# EAGLE library part COM-ETX-BASE (library com-etx)
CPU Module COM ETX, Kontron
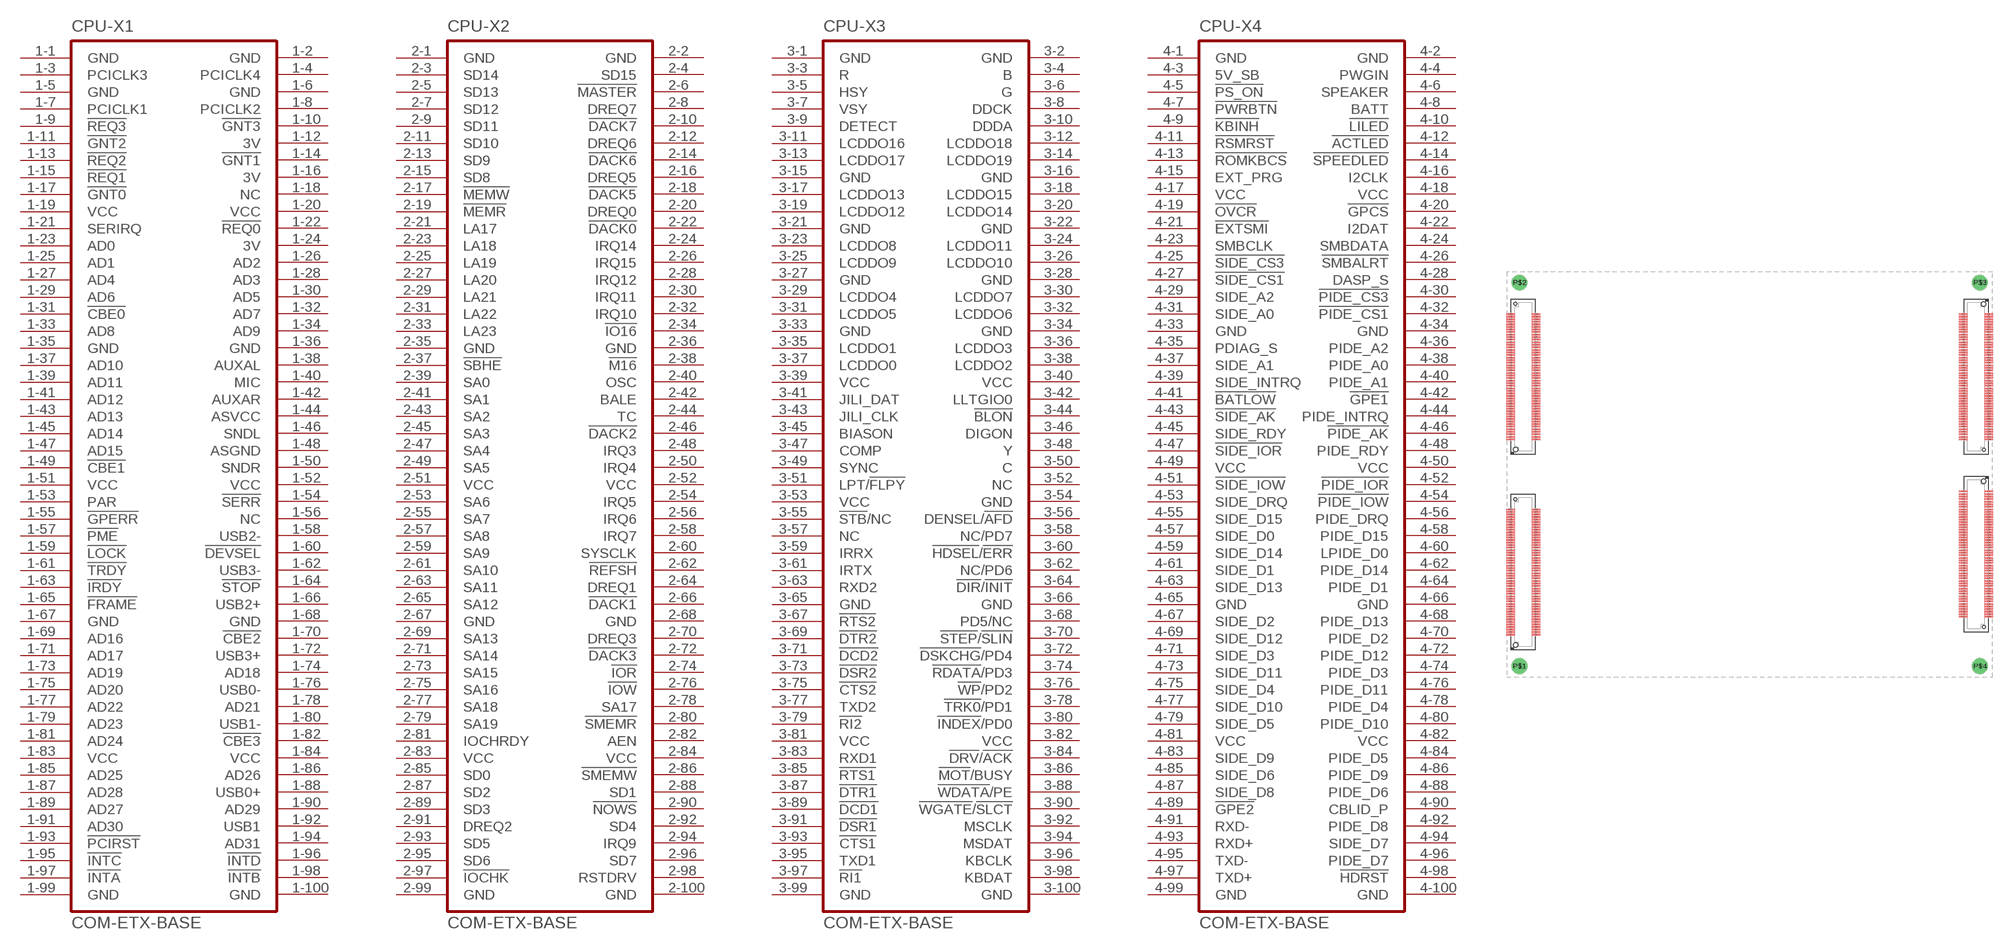
[diagram p0: symbol with the pads of COM-ETX-BASE; footprint COM-ETX-BASE]

Designator prefix CPU; gates -X1=X1 -X2=X2 -X3=X3 -X4=X4

## COM-ETX-BASE  [COM-ETX-BASE]
1-1  -X1:GND
1-2  -X1:GND  pwr
1-3  -X1:PCICLK3
1-4  -X1:PCICLK4
1-5  -X1:GND  pwr
1-6  -X1:GND  pwr
1-7  -X1:PCICLK1
1-8  -X1:PCICLK2
1-9  -X1:!REQ3
1-10  -X1:!GNT3
1-11  -X1:!GNT2
1-12  -X1:3V  pwr
1-13  -X1:!REQ2
1-14  -X1:!GNT1
1-15  -X1:!REQ1
1-16  -X1:3V  pwr
1-17  -X1:!GNT0
1-18  -X1:NC
1-19  -X1:VCC  pwr
1-20  -X1:VCC
1-21  -X1:SERIRQ
1-22  -X1:!REQ0
1-23  -X1:AD0
1-24  -X1:3V  pwr
1-25  -X1:AD1
1-26  -X1:AD2
1-27  -X1:AD4
1-28  -X1:AD3
1-29  -X1:AD6
1-30  -X1:AD5
1-31  -X1:!CBE0
1-32  -X1:AD7
1-33  -X1:AD8
1-34  -X1:AD9
1-35  -X1:GND  pwr
1-36  -X1:GND  pwr
1-37  -X1:AD10
1-38  -X1:AUXAL
1-39  -X1:AD11
1-40  -X1:MIC
1-41  -X1:AD12
1-42  -X1:AUXAR
1-43  -X1:AD13
1-44  -X1:ASVCC  pwr
1-45  -X1:AD14
1-46  -X1:SNDL
1-47  -X1:AD15
1-48  -X1:ASGND  pwr
1-49  -X1:!CBE1
1-50  -X1:SNDR
1-51  -X1:VCC  pwr
1-52  -X1:VCC  pwr
1-53  -X1:PAR
1-54  -X1:!SERR
1-55  -X1:!GPERR
1-56  -X1:NC
1-57  -X1:!PME
1-58  -X1:USB2-
1-59  -X1:!LOCK
1-60  -X1:!DEVSEL
1-61  -X1:!TRDY
1-62  -X1:USB3-
1-63  -X1:!IRDY
1-64  -X1:!STOP
1-65  -X1:!FRAME
1-66  -X1:USB2+
1-67  -X1:GND  pwr
1-68  -X1:GND  pwr
1-69  -X1:AD16
1-70  -X1:!CBE2
1-71  -X1:AD17
1-72  -X1:USB3+
1-73  -X1:AD19
1-74  -X1:AD18
1-75  -X1:AD20
1-76  -X1:USB0-
1-77  -X1:AD22
1-78  -X1:AD21
1-79  -X1:AD23
1-80  -X1:USB1-
1-81  -X1:AD24
1-82  -X1:!CBE3
1-83  -X1:VCC  pwr
1-84  -X1:VCC  pwr
1-85  -X1:AD25
1-86  -X1:AD26
1-87  -X1:AD28
1-88  -X1:USB0+
1-89  -X1:AD27
1-90  -X1:AD29
1-91  -X1:AD30
1-92  -X1:USB1
1-93  -X1:!PCIRST
1-94  -X1:AD31
1-95  -X1:!INTC
1-96  -X1:!INTD
1-97  -X1:!INTA
1-98  -X1:!INTB
1-99  -X1:GND  pwr
1-100  -X1:GND  pwr
2-1  -X2:GND  pwr
2-2  -X2:GND  pwr
2-3  -X2:SD14
2-4  -X2:SD15
2-5  -X2:SD13
2-6  -X2:!MASTER
2-7  -X2:SD12
2-8  -X2:DREQ7
2-9  -X2:SD11
2-10  -X2:!DACK7
2-11  -X2:SD10
2-12  -X2:DREQ6
2-13  -X2:SD9
2-14  -X2:!DACK6
2-15  -X2:SD8
2-16  -X2:DREQ5
2-17  -X2:!MEMW
2-18  -X2:!DACK5
2-19  -X2:!MEMR
2-20  -X2:DREQ0
2-21  -X2:LA17
2-22  -X2:!DACK0
2-23  -X2:LA18
2-24  -X2:IRQ14
2-25  -X2:LA19
2-26  -X2:IRQ15
2-27  -X2:LA20
2-28  -X2:IRQ12
2-29  -X2:LA21
2-30  -X2:IRQ11
2-31  -X2:LA22
2-32  -X2:IRQ10
2-33  -X2:LA23
2-34  -X2:!IO16
2-35  -X2:GND  pwr
2-36  -X2:GND  pwr
2-37  -X2:!SBHE
2-38  -X2:!M16
2-39  -X2:SA0
2-40  -X2:OSC
2-41  -X2:SA1
2-42  -X2:BALE
2-43  -X2:SA2
2-44  -X2:TC
2-45  -X2:SA3
2-46  -X2:!DACK2
2-47  -X2:SA4
2-48  -X2:IRQ3
2-49  -X2:SA5
2-50  -X2:IRQ4
2-51  -X2:VCC  pwr
2-52  -X2:VCC  pwr
2-53  -X2:SA6
2-54  -X2:IRQ5
2-55  -X2:SA7
2-56  -X2:IRQ6
2-57  -X2:SA8
2-58  -X2:IRQ7
2-59  -X2:SA9
2-60  -X2:SYSCLK
2-61  -X2:SA10
2-62  -X2:!REFSH
2-63  -X2:SA11
2-64  -X2:DREQ1
2-65  -X2:SA12
2-66  -X2:!DACK1
2-67  -X2:GND  pwr
2-68  -X2:GND  pwr
2-69  -X2:SA13
2-70  -X2:DREQ3
2-71  -X2:SA14
2-72  -X2:!DACK3
2-73  -X2:SA15
2-74  -X2:!IOR
2-75  -X2:SA16
2-76  -X2:!IOW
2-77  -X2:SA18
2-78  -X2:SA17
2-79  -X2:SA19
2-80  -X2:!SMEMR
2-81  -X2:IOCHRDY
2-82  -X2:AEN
2-83  -X2:VCC  pwr
2-84  -X2:VCC  pwr
2-85  -X2:SD0
2-86  -X2:!SMEMW
2-87  -X2:SD2
2-88  -X2:SD1
2-89  -X2:SD3
2-90  -X2:!NOWS
2-91  -X2:DREQ2
2-92  -X2:SD4
2-93  -X2:SD5
2-94  -X2:IRQ9
2-95  -X2:SD6
2-96  -X2:SD7
2-97  -X2:!IOCHK
2-98  -X2:RSTDRV
2-99  -X2:GND  pwr
2-100  -X2:GND  pwr
3-1  -X3:GND  pwr
3-2  -X3:GND  pwr
3-3  -X3:R
3-4  -X3:B
3-5  -X3:HSY
3-6  -X3:G
3-7  -X3:VSY
3-8  -X3:DDCK
3-9  -X3:DETECT
3-10  -X3:DDDA
3-11  -X3:LCDDO16
3-12  -X3:LCDDO18
3-13  -X3:LCDDO17
3-14  -X3:LCDDO19
3-15  -X3:GND  pwr
3-16  -X3:GND  pwr
3-17  -X3:LCDDO13
3-18  -X3:LCDDO15
3-19  -X3:LCDDO12
3-20  -X3:LCDDO14
3-21  -X3:GND  pwr
3-22  -X3:GND  pwr
3-23  -X3:LCDDO8
3-24  -X3:LCDDO11
3-25  -X3:LCDDO9
3-26  -X3:LCDDO10
3-27  -X3:GND  pwr
3-28  -X3:GND  pwr
3-29  -X3:LCDDO4
3-30  -X3:LCDDO7
3-31  -X3:LCDDO5
3-32  -X3:LCDDO6
3-33  -X3:GND  pwr
3-34  -X3:GND  pwr
3-35  -X3:LCDDO1
3-36  -X3:LCDDO3
3-37  -X3:LCDDO0
3-38  -X3:LCDDO2
3-39  -X3:VCC  pwr
3-40  -X3:VCC  pwr
3-41  -X3:JILI_DAT
3-42  -X3:LLTGIO0
3-43  -X3:JILI_CLK
3-44  -X3:!BLON
3-45  -X3:BIASON
3-46  -X3:DIGON
3-47  -X3:COMP
3-48  -X3:Y
3-49  -X3:SYNC
3-50  -X3:C
3-51  -X3:LPT/!FLPY
3-52  -X3:NC
3-53  -X3:VCC  pwr
3-54  -X3:GND  pwr
3-55  -X3:!STB!/NC
3-56  -X3:DENSEL/!AFD!
3-57  -X3:NC
3-58  -X3:NC/PD7
3-59  -X3:IRRX
3-60  -X3:!HDSEL!/!ERR!
3-61  -X3:IRTX
3-62  -X3:NC/PD6
3-63  -X3:RXD2
3-64  -X3:!DIR!/!INIT!
3-65  -X3:GND  pwr
3-66  -X3:GND  pwr
3-67  -X3:!RTS2
3-68  -X3:PD5/NC
3-69  -X3:!DTR2
3-70  -X3:!STEP!/!SLIN!
3-71  -X3:!DCD2
3-72  -X3:!DSKCHG!/PD4
3-73  -X3:!DSR2
3-74  -X3:!RDATA!/PD3
3-75  -X3:!CTS2
3-76  -X3:!WP!/PD2
3-77  -X3:TXD2
3-78  -X3:!TRK0!/PD1
3-79  -X3:!RI2
3-80  -X3:!INDEX!/PD0
3-81  -X3:VCC  pwr
3-82  -X3:VCC  pwr
3-83  -X3:RXD1
3-84  -X3:!DRV!/!ACK!
3-85  -X3:!RTS1
3-86  -X3:!MOT!/BUSY
3-87  -X3:!DTR1
3-88  -X3:!WDATA!/PE
3-89  -X3:!DCD1
3-90  -X3:!WGATE!/!SLCT!
3-91  -X3:!DSR1
3-92  -X3:MSCLK
3-93  -X3:!CTS1
3-94  -X3:MSDAT
3-95  -X3:TXD1
3-96  -X3:KBCLK
3-97  -X3:!RI1
3-98  -X3:KBDAT
3-99  -X3:GND  pwr
3-100  -X3:GND  pwr
4-1  -X4:GND  pwr
4-2  -X4:GND  pwr
4-3  -X4:5V_SB
4-4  -X4:PWGIN
4-5  -X4:!PS_ON
4-6  -X4:SPEAKER
4-7  -X4:!PWRBTN
4-8  -X4:BATT  pwr
4-9  -X4:!KBINH
4-10  -X4:!LILED
4-11  -X4:!RSMRST
4-12  -X4:!ACTLED
4-13  -X4:!ROMKBCS
4-14  -X4:!SPEEDLED
4-15  -X4:EXT_PRG
4-16  -X4:I2CLK
4-17  -X4:VCC  pwr
4-18  -X4:VCC  pwr
4-19  -X4:!OVCR
4-20  -X4:!GPCS
4-21  -X4:!EXTSMI
4-22  -X4:I2DAT
4-23  -X4:SMBCLK
4-24  -X4:SMBDATA
4-25  -X4:!SIDE_CS3
4-26  -X4:!SMBALRT
4-27  -X4:!SIDE_CS1
4-28  -X4:DASP_S
4-29  -X4:SIDE_A2
4-30  -X4:!PIDE_CS3
4-31  -X4:SIDE_A0
4-32  -X4:!PIDE_CS1
4-33  -X4:GND  pwr
4-34  -X4:GND  pwr
4-35  -X4:PDIAG_S
4-36  -X4:PIDE_A2
4-37  -X4:SIDE_A1
4-38  -X4:PIDE_A0
4-39  -X4:SIDE_INTRQ
4-40  -X4:PIDE_A1
4-41  -X4:!BATLOW
4-42  -X4:!GPE1
4-43  -X4:!SIDE_AK
4-44  -X4:PIDE_INTRQ
4-45  -X4:SIDE_RDY
4-46  -X4:!PIDE_AK
4-47  -X4:!SIDE_IOR
4-48  -X4:PIDE_RDY
4-49  -X4:VCC  pwr
4-50  -X4:VCC  pwr
4-51  -X4:!SIDE_IOW
4-52  -X4:!PIDE_IOR
4-53  -X4:SIDE_DRQ
4-54  -X4:!PIDE_IOW
4-55  -X4:SIDE_D15
4-56  -X4:PIDE_DRQ
4-57  -X4:SIDE_D0
4-58  -X4:PIDE_D15
4-59  -X4:SIDE_D14
4-60  -X4:LPIDE_D0
4-61  -X4:SIDE_D1
4-62  -X4:PIDE_D14
4-63  -X4:SIDE_D13
4-64  -X4:PIDE_D1
4-65  -X4:GND  pwr
4-66  -X4:GND  pwr
4-67  -X4:SIDE_D2
4-68  -X4:PIDE_D13
4-69  -X4:SIDE_D12
4-70  -X4:PIDE_D2
4-71  -X4:SIDE_D3
4-72  -X4:PIDE_D12
4-73  -X4:SIDE_D11
4-74  -X4:PIDE_D3
4-75  -X4:SIDE_D4
4-76  -X4:PIDE_D11
4-77  -X4:SIDE_D10
4-78  -X4:PIDE_D4
4-79  -X4:SIDE_D5
4-80  -X4:PIDE_D10
4-81  -X4:VCC  pwr
4-82  -X4:VCC  pwr
4-83  -X4:SIDE_D9
4-84  -X4:PIDE_D5
4-85  -X4:SIDE_D6
4-86  -X4:PIDE_D9
4-87  -X4:SIDE_D8
4-88  -X4:PIDE_D6
4-89  -X4:!GPE2
4-90  -X4:CBLID_P
4-91  -X4:RXD-
4-92  -X4:PIDE_D8
4-93  -X4:RXD+
4-94  -X4:SIDE_D7
4-95  -X4:TXD-
4-96  -X4:PIDE_D7
4-97  -X4:TXD+
4-98  -X4:!HDRST
4-99  -X4:GND  pwr
4-100  -X4:GND  pwr

## Footprint COM-ETX-BASE (pad centres in mm)
COM ETX MODULE (Kontron) Baseboard Footprint
smd 2 x 0.35: 1-1 113.1,43.5; 1-2 107.1,43.5; 1-3 113.1,42.9; 1-4 107.1,42.9; 1-5 113.1,42.3; 1-6 107.1,42.3; 1-7 113.1,41.7; 1-8 107.1,41.7; 1-9 113.1,41.1; 1-10 107.1,41.1; 1-11 113.1,40.5; 1-12 107.1,40.5; 1-13 113.1,39.9; 1-14 107.1,39.9; 1-15 113.1,39.3; 1-16 107.1,39.3; 1-17 113.1,38.7; 1-18 107.1,38.7; 1-19 107.1,38.1; 1-20 113.1,38.1; 1-21 107.1,37.5; 1-22 113.1,37.5; 1-23 107.1,36.9; 1-24 113.1,36.9; 1-25 107.1,36.3; 1-26 113.1,36.3; 1-27 107.1,35.7; 1-28 113.1,35.7; 1-29 107.1,35.1; 1-30 113.1,35.1; 1-31 107.1,34.5; 1-32 113.1,34.5; 1-33 107.1,33.9; 1-34 113.1,33.9; 1-35 107.1,33.3; 1-36 113.1,33.3; 1-37 107.1,32.7; 1-38 113.1,32.7; 1-39 107.1,32.1; 1-40 113.1,32.1; 1-41 107.1,31.5; 1-42 113.1,31.5; 1-43 107.1,30.9; 1-44 113.1,30.9; 1-45 107.1,30.3; 1-46 113.1,30.3; 1-47 107.1,29.7; 1-48 113.1,29.7; 1-49 107.1,29.1; 1-50 113.1,29.1; 1-51 113.1,28.5; 1-52 107.1,28.5; 1-53 113.1,27.9; 1-54 107.1,27.9; 1-55 113.1,27.3; 1-56 107.1,27.3; 1-57 113.1,26.7; 1-58 107.1,26.7; 1-59 113.1,26.1; 1-60 107.1,26.1; 1-61 113.1,25.5; 1-62 107.1,25.5; 1-63 113.1,24.9; 1-64 107.1,24.9; 1-65 113.1,24.3; 1-66 107.1,24.3; 1-67 113.1,23.7; 1-68 107.1,23.7; 1-69 107.1,23.1; 1-70 113.1,23.1; 1-71 107.1,22.5; 1-72 113.1,22.5; 1-73 107.1,21.9; 1-74 113.1,21.9; 1-75 107.1,21.3; 1-76 113.1,21.3; 1-77 107.1,20.7; 1-78 113.1,20.7; 1-79 107.1,20.1; 1-80 113.1,20.1; 1-81 107.1,19.5; 1-82 113.1,19.5; 1-83 107.1,18.9; 1-84 113.1,18.9; 1-85 107.1,18.3; 1-86 113.1,18.3; 1-87 107.1,17.7; 1-88 113.1,17.7; 1-89 107.1,17.1; 1-90 113.1,17.1; 1-91 107.1,16.5; 1-92 113.1,16.5; 1-93 107.1,15.9; 1-94 113.1,15.9; 1-95 107.1,15.3; 1-96 113.1,15.3; 1-97 107.1,14.7; 1-98 113.1,14.7; 1-99 107.1,14.1; 1-100 113.1,14.1; 2-1 113.1,85.1; 2-2 107.1,85.1; 2-3 113.1,84.5; 2-4 107.1,84.5; 2-5 113.1,83.9; 2-6 107.1,83.9; 2-7 113.1,83.3; 2-8 107.1,83.3; 2-9 113.1,82.7; 2-10 107.1,82.7; 2-11 113.1,82.1; 2-12 107.1,82.1; 2-13 113.1,81.5; 2-14 107.1,81.5; 2-15 113.1,80.9; 2-16 107.1,80.9; 2-17 113.1,80.3; 2-18 107.1,80.3; 2-19 107.1,79.7; 2-20 113.1,79.7; 2-21 107.1,79.1; 2-22 113.1,79.1; 2-23 107.1,78.5; 2-24 113.1,78.5; 2-25 107.1,77.9; 2-26 113.1,77.9; 2-27 107.1,77.3; 2-28 113.1,77.3; 2-29 107.1,76.7; 2-30 113.1,76.7; 2-31 107.1,76.1; 2-32 113.1,76.1; 2-33 107.1,75.5; 2-34 113.1,75.5; 2-35 107.1,74.9; 2-36 113.1,74.9; 2-37 107.1,74.3; 2-38 113.1,74.3; 2-39 107.1,73.7; 2-40 113.1,73.7; 2-41 107.1,73.1; 2-42 113.1,73.1; 2-43 107.1,72.5; 2-44 113.1,72.5; 2-45 107.1,71.9; 2-46 113.1,71.9; 2-47 107.1,71.3; 2-48 113.1,71.3; 2-49 107.1,70.7; 2-50 113.1,70.7; 2-51 113.1,70.1; 2-52 107.1,70.1; 2-53 113.1,69.5; 2-54 107.1,69.5; 2-55 113.1,68.9; 2-56 107.1,68.9; 2-57 113.1,68.3; 2-58 107.1,68.3; 2-59 113.1,67.7; 2-60 107.1,67.7; 2-61 113.1,67.1; 2-62 107.1,67.1; 2-63 113.1,66.5; 2-64 107.1,66.5; 2-65 113.1,65.9; 2-66 107.1,65.9; 2-67 113.1,65.3; 2-68 107.1,65.3; 2-69 107.1,64.7; 2-70 113.1,64.7; 2-71 107.1,64.1; 2-72 113.1,64.1; 2-73 107.1,63.5; 2-74 113.1,63.5; 2-75 107.1,62.9; 2-76 113.1,62.9; 2-77 107.1,62.3; 2-78 113.1,62.3; 2-79 107.1,61.7; 2-80 113.1,61.7; 2-81 107.1,61.1; 2-82 113.1,61.1; 2-83 107.1,60.5; 2-84 113.1,60.5; 2-85 107.1,59.9; 2-86 113.1,59.9; 2-87 107.1,59.3; 2-88 113.1,59.3; 2-89 107.1,58.7; 2-90 113.1,58.7; 2-91 107.1,58.1; 2-92 113.1,58.1; 2-93 107.1,57.5; 2-94 113.1,57.5; 2-95 107.1,56.9; 2-96 113.1,56.9; 2-97 107.1,56.3; 2-98 113.1,56.3; 2-99 107.1,55.7; 2-100 113.1,55.7; 3-1 0.9,55.7; 3-2 6.9,55.7; 3-3 0.9,56.3; 3-4 6.9,56.3; 3-5 0.9,56.9; 3-6 6.9,56.9; 3-7 0.9,57.5; 3-8 6.9,57.5; 3-9 0.9,58.1; 3-10 6.9,58.1; 3-11 0.9,58.7; 3-12 6.9,58.7; 3-13 0.9,59.3; 3-14 6.9,59.3; 3-15 0.9,59.9; 3-16 6.9,59.9; 3-17 0.9,60.5; 3-18 6.9,60.5; 3-19 6.9,61.1; 3-20 0.9,61.1; 3-21 6.9,61.7; 3-22 0.9,61.7; 3-23 6.9,62.3; 3-24 0.9,62.3; 3-25 6.9,62.9; 3-26 0.9,62.9; 3-27 6.9,63.5; 3-28 0.9,63.5; 3-29 6.9,64.1; 3-30 0.9,64.1; 3-31 6.9,64.7; 3-32 0.9,64.7; 3-33 6.9,65.3; 3-34 0.9,65.3; 3-35 6.9,65.9; 3-36 0.9,65.9; 3-37 6.9,66.5; 3-38 0.9,66.5; 3-39 6.9,67.1; 3-40 0.9,67.1; 3-41 6.9,67.7; 3-42 0.9,67.7; 3-43 6.9,68.3; 3-44 0.9,68.3; 3-45 6.9,68.9; 3-46 0.9,68.9; 3-47 6.9,69.5; 3-48 0.9,69.5; 3-49 6.9,70.1; 3-50 0.9,70.1; 3-51 0.9,70.7; 3-52 6.9,70.7; 3-53 0.9,71.3; 3-54 6.9,71.3; 3-55 0.9,71.9; 3-56 6.9,71.9; 3-57 0.9,72.5; 3-58 6.9,72.5; 3-59 0.9,73.1; 3-60 6.9,73.1; 3-61 0.9,73.7; 3-62 6.9,73.7; 3-63 0.9,74.3; 3-64 6.9,74.3; 3-65 0.9,74.9; 3-66 6.9,74.9; 3-67 0.9,75.5; 3-68 6.9,75.5; 3-69 6.9,76.1; 3-70 0.9,76.1; 3-71 6.9,76.7; 3-72 0.9,76.7; 3-73 6.9,77.3; 3-74 0.9,77.3; 3-75 6.9,77.9; 3-76 0.9,77.9; 3-77 6.9,78.5; 3-78 0.9,78.5; 3-79 6.9,79.1; 3-80 0.9,79.1; 3-81 6.9,79.7; 3-82 0.9,79.7; 3-83 6.9,80.3; 3-84 0.9,80.3; 3-85 6.9,80.9; 3-86 0.9,80.9; 3-87 6.9,81.5; 3-88 0.9,81.5; 3-89 6.9,82.1; 3-90 0.9,82.1; 3-91 6.9,82.7; 3-92 0.9,82.7; 3-93 6.9,83.3; 3-94 0.9,83.3; 3-95 6.9,83.9; 3-96 0.9,83.9; 3-97 6.9,84.5; 3-98 0.9,84.5; 3-99 6.9,85.1; 3-100 0.9,85.1; 4-1 0.9,9.9; 4-2 6.9,9.9; 4-3 0.9,10.5; 4-4 6.9,10.5; 4-5 0.9,11.1; 4-6 6.9,11.1; 4-7 0.9,11.7; 4-8 6.9,11.7; 4-9 0.9,12.3; 4-10 6.9,12.3; 4-11 0.9,12.9; 4-12 6.9,12.9; 4-13 0.9,13.5; 4-14 6.9,13.5; 4-15 0.9,14.1; 4-16 6.9,14.1; 4-17 0.9,14.7; 4-18 6.9,14.7; 4-19 6.9,15.3; 4-20 0.9,15.3; 4-21 6.9,15.9; 4-22 0.9,15.9; 4-23 6.9,16.5; 4-24 0.9,16.5; 4-25 6.9,17.1; 4-26 0.9,17.1; 4-27 6.9,17.7; 4-28 0.9,17.7; 4-29 6.9,18.3; 4-30 0.9,18.3; 4-31 6.9,18.9; 4-32 0.9,18.9; 4-33 6.9,19.5; 4-34 0.9,19.5; 4-35 6.9,20.1; 4-36 0.9,20.1; 4-37 6.9,20.7; 4-38 0.9,20.7; 4-39 6.9,21.3; 4-40 0.9,21.3; 4-41 6.9,21.9; 4-42 0.9,21.9; 4-43 6.9,22.5; 4-44 0.9,22.5; 4-45 6.9,23.1; 4-46 0.9,23.1; 4-47 6.9,23.7; 4-48 0.9,23.7; 4-49 6.9,24.3; 4-50 0.9,24.3; 4-51 0.9,24.9; 4-52 6.9,24.9; 4-53 0.9,25.5; 4-54 6.9,25.5; 4-55 0.9,26.1; 4-56 6.9,26.1; 4-57 0.9,26.7; 4-58 6.9,26.7; 4-59 0.9,27.3; 4-60 6.9,27.3; 4-61 0.9,27.9; 4-62 6.9,27.9; 4-63 0.9,28.5; 4-64 6.9,28.5; 4-65 0.9,29.1; 4-66 6.9,29.1; 4-67 0.9,29.7; 4-68 6.9,29.7; 4-69 6.9,30.3; 4-70 0.9,30.3; 4-71 6.9,30.9; 4-72 0.9,30.9; 4-73 6.9,31.5; 4-74 0.9,31.5; 4-75 6.9,32.1; 4-76 0.9,32.1; 4-77 6.9,32.7; 4-78 0.9,32.7; 4-79 6.9,33.3; 4-80 0.9,33.3; 4-81 6.9,33.9; 4-82 0.9,33.9; 4-83 6.9,34.5; 4-84 0.9,34.5; 4-85 6.9,35.1; 4-86 0.9,35.1; 4-87 6.9,35.7; 4-88 0.9,35.7; 4-89 6.9,36.3; 4-90 0.9,36.3; 4-91 6.9,36.9; 4-92 0.9,36.9; 4-93 6.9,37.5; 4-94 0.9,37.5; 4-95 6.9,38.1; 4-96 0.9,38.1; 4-97 6.9,38.7; 4-98 0.9,38.7; 4-99 6.9,39.3; 4-100 0.9,39.3
drill 2.7: P$1 3,2.5; P$2 3,92.5; P$3 111,92.5; P$4 111,2.5
hole 1 at 111.9,45.9
hole 0.7 at 111.9,11.7
hole 1 at 111.9,87.5
hole 0.7 at 111.9,53.3
hole 1 at 2.1,53.3
hole 0.7 at 2.1,87.5
hole 1 at 2.1,7.5
hole 0.7 at 2.1,41.7